# Altium schematic symbol library OKR-T-W12.SchLib: 1 symbol
Pins are listed as number, name and electrical type; pins without a type are passive.

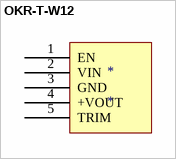
[diagram p0: symbol OKR-T-W12]

## OKR-T-W12
designator *
footprint OKR-T-W12
pins: 1 EN, 2 VIN, 3 GND, 4 +VOUT, 5 TRIM